# Altium schematic symbol library IC LCD Driver.SchLib: 8 symbols
Pins are listed as number, name and electrical type; pins without a type are passive.

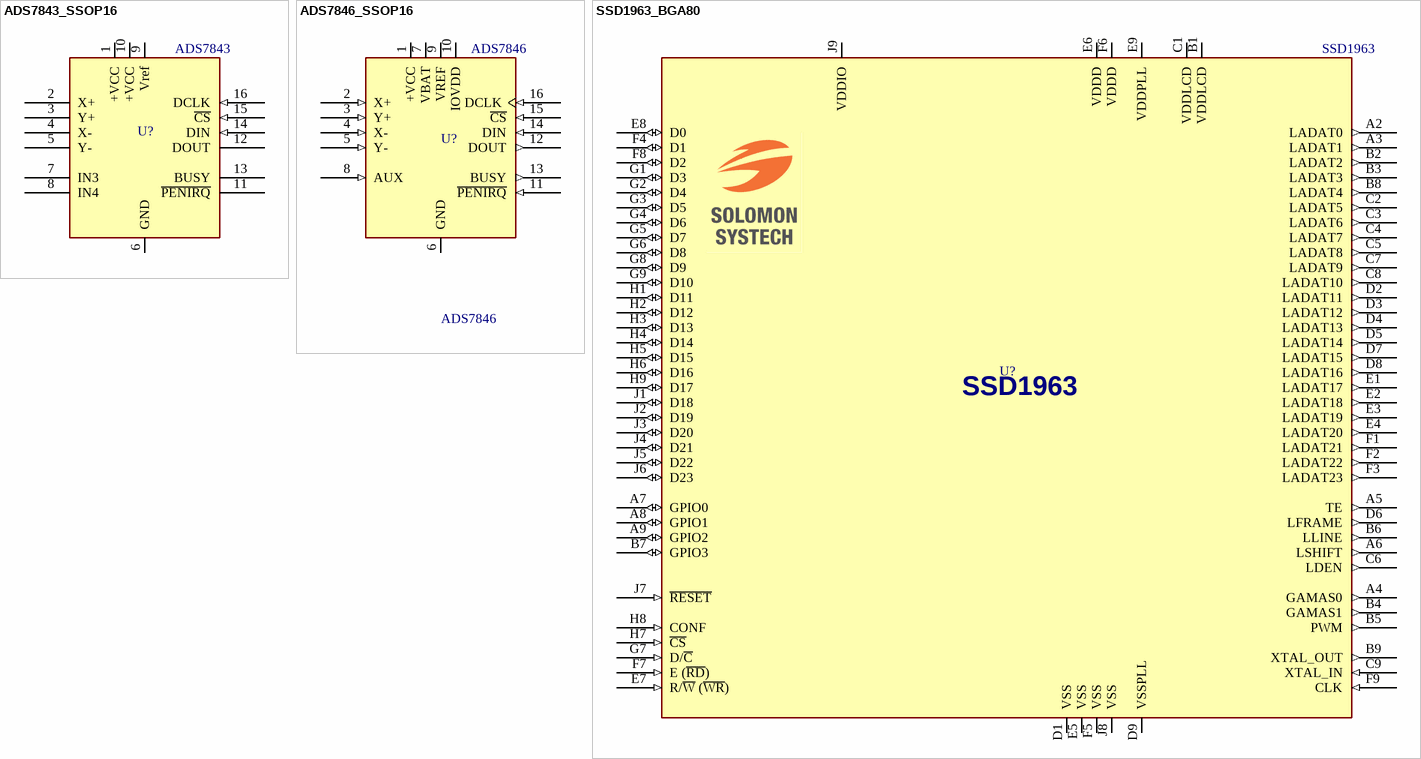
[diagram p0: symbols ADS7843_SSOP16 to SSD1963_BGA80]

## ADS7843_SSOP16
designator U?, comment ADS7843
LCD, Touch Screen Controller, 4Wire, 8/12Bit; MANF: Texas Instruments; PARAM2: 2.7~5V; MANF_P#: ADS7843; VALUE: ADS7843
footprint SOG63_16 (SOP DBQ, 16-Leads, Body 4.90x3.90mm, Pitch 0.635mm)
pins: 1 +VCC (power) "Power Supply, 2.7V to 5V.", 2 X+ (hiz) "X+ Position Input. ADC input Channel 1.", 3 Y+ (hiz) "Y+ Position Input. ADC input Channel 2.", 4 X- (hiz) "X- Position Input.", 5 Y- (hiz) "Y- Position Input.", 6 GND (power) "Ground", 7 IN3 (hiz) "Auxiliary Input 1. ADC input Channel 3.", 8 IN4 (hiz) "Auxiliary Input 2. ADC input Channel 4.", 9 Vref (power) "Voltage Reference Input", 10 +VCC (power) "Power Supply, 2.7V to 5V.", 11 ~{PENIRQ} (oc) "Pen Interrupt. Open anode output (requires 10kOhm  to 100kOhm pull-up resistor externally).", 12 DOUT (hiz) "Serial Data Output. Data is shifted on the falling  edge of DCLK. This output is high impedance  when CS is HIGH", 13 BUSY (hiz) "Busy Output. This output is high impedance when  CS is HIGH", 14 DIN (in) "Serial Data Input. If CS is LOW, data is latched on  rising edge of DCLK", 15 ~{CS} (in) "Chip Select Input. Controls conversion timing and  enables the serial input/output register", 16 DCLK (in) "External Clock Input. This clock runs the SAR conversion  process and synchronizes serial data I/O."

## ADS7846_SSOP16
designator U?, comment ADS7846
LCD, Touch screen controller, 4-WIRE, resistive; MANF: Texas Instruments; MANF_P#: ADS7846E; PARAM2: 2.2~5.25VCC, 1.5~5.25VIO; PARAM: 12Bit, 125KHz, resistive; VALUE: ADS7846
footprint SOG63_16 (SOP DBQ, 16-Leads, Body 4.90x3.90mm, Pitch 0.635mm)
pins: 1 +VCC (power), 2 X+ (in), 3 Y+ (in), 4 X- (in), 5 Y- (in), 6 GND (power), 7 VBAT (power), 8 AUX (in), 9 VREF (power), 10 IOVDD (power), 11 ~{PENIRQ} (in), 12 DOUT (out), 13 BUSY (out), 14 DIN (in), 15 ~{CS} (in), 16 DCLK (in)

## SSD1963_BGA80
designator U?, comment SSD1963
LCD Display Controller, 1215KB Embedded Display SRAM; MANF: SOLOMON SYSTECH; MANF_P#: SSD1963G41; PARAM2: 1.2VC, 1.65~3.6VIO, 1.65~3.6VLCD; VALUE: SSD1963
footprint BGA65_81_S7 (BGA, 81-Leads, Body 7.00x7.00mmx1.10mm, Pitch 0.65mm)
pins: A2 LADAT0 (out) "RGB data", A3 LADAT1 (out) "RGB data", A4 GAMAS0 (out) "Gamma selection for panel", A5 TE (out) "Tearing effect", A6 LSHIFT (out) "Pixel clock (Pixel shift signal)", A7 GPIO0 (io) "These pins can be configured for display miscellaneous signals or as general purpos I/O. Default as Input", A8 GPIO1 (io) "These pins can be configured for display miscellaneous signals or as general purpos I/O. Default as Input", A9 GPIO2 (io) "These pins can be configured for display miscellaneous signals or as general purpos I/O. Default as Input", B1 VDDLCD (power) "Power Supply for LCD interface related pads (1.65V to 3.6V)", B2 LADAT2 (out) "RGB data", B3 LADAT3 (out) "RGB data", B4 GAMAS1 (out) "Gamma selection for panel", B5 PWM (out) "PWM output for backlight driver", B6 LLINE (out) "Horizontal sync (Line pulse)", B7 GPIO3 (io) "These pins can be configured for display miscellaneous signals or as general purpos I/O. Default as Input", B8 LADAT4 (out) "RGB data", B9 XTAL_OUT (out) "Crystal oscillator output. This pin should be floating if not used", C1 VDDLCD (power) "Power Supply for LCD interface related pads (1.65V to 3.6V)", C2 LADAT5 (out) "RGB data", C3 LADAT6 (out) "RGB data", C4 LADAT7 (out) "RGB data", C5 LADAT8 (out) "RGB data", C6 LDEN (out) "Data valid", C7 LADAT9 (out) "RGB data", C8 LADAT10 (out) "RGB data", C9 XTAL_IN (in) "Crystal oscillator input. This pin should be tied to VSS if not used", D1 VSS (power) "Ground For Internal Digital Circuit", D2 LADAT11 (out) "RGB data", D3 LADAT12 (out) "RGB data", D4 LADAT13 (out) "RGB data", D5 LADAT14 (out) "RGB data", D6 LFRAME (out) "Vertical sync (Frame pulse)", D7 LADAT15 (out) "RGB data", D8 LADAT16 (out) "RGB data", D9 VSSPLL (power) "Ground For Internal Analog Circuit and Analog I/O pads", E1 LADAT17 (out) "RGB data", E2 LADAT18 (out) "RGB data", E3 LADAT19 (out) "RGB data", E4 LADAT20 (out) "RGB data", E5 VSS (power) "Ground For Internal Digital Circuit", E6 VDDD (power) "Power Supply for internal digital circuit  (1.2V ± 0.1 V)", E7 R/~{W} (~{WR}) (in) "6800 mode:R/W# => 0:Write cycle => 1:read cycle ==> 8080 mode: WR# (write strobe signal)", E8 D0 (io) "Data bus. Pins not used should be floating", E9 VDDPLL (power) "Power Supply for internal analog circuit and analog I/O pads (1.2V ± 0.1 V)", F1 LADAT21 (out) "RGB data", F2 LADAT22 (out) "RGB data", F3 LADAT23 (out) "RGB data", F4 D1 (io) "Data bus. Pins not used should be floating", F5 VSS (power) "Ground For Internal Digital Circuit", F6 VDDD (power) "Power Supply for internal digital circuit  (1.2V ± 0.1 V)", F7 E (~{RD}) (in) "6800 mode: E (enable signal) ==> 8080 mode: RD# (read strobe signal)", F8 D2 (io) "Data bus. Pins not used should be floating", F9 CLK (in) "TTL clock input. this pin should be tied to VSS if TTL clock input is not used", G1 D3 (io) "Data bus. Pins not used should be floating", G2 D4 (io) "Data bus. Pins not used should be floating", G3 D5 (io) "Data bus. Pins not used should be floating", G4 D6 (io) "Data bus. Pins not used should be floating", G5 D7 (io) "Data bus. Pins not used should be floating", G6 D8 (io) "Data bus. Pins not used should be floating", G7 D/~{C} (in) "Data/Command select", G8 D9 (io) "Data bus. Pins not used should be floating", G9 D10 (io) "Data bus. Pins not used should be floating", H1 D11 (io) "Data bus. Pins not used should be floating", H2 D12 (io) "Data bus. Pins not used should be floating", H3 D13 (io) "Data bus. Pins not used should be floating", H4 D14 (io) "Data bus. Pins not used should be floating", H5 D15 (io) "Data bus. Pins not used should be floating", H6 D16 (io) "Data bus. Pins not used should be floating", H7 ~{CS} (in) "Chip select", H8 CONF (in) "MCU interface configuration => 0 : 6800 interface => 1 : 8080 Interface", H9 D17 (io) "Data bus. Pins not used should be floating", J1 D18 (io) "Data bus. Pins not used should be floating", J2 D19 (io) "Data bus. Pins not used should be floating", J3 D20 (io) "Data bus. Pins not used should be floating", J4 D21 (io) "Data bus. Pins not used should be floating", J5 D22 (io) "Data bus. Pins not used should be floating", J6 D23 (io) "Data bus. Pins not used should be floating", J7 ~{RESET} (in) "Master Synchronize reset", J8 VSS (power) "Ground For Internal Digital Circuit", J9 VDDIO (power) "Power Supply for Digital I/O pads (1.65V to 3.6V)"

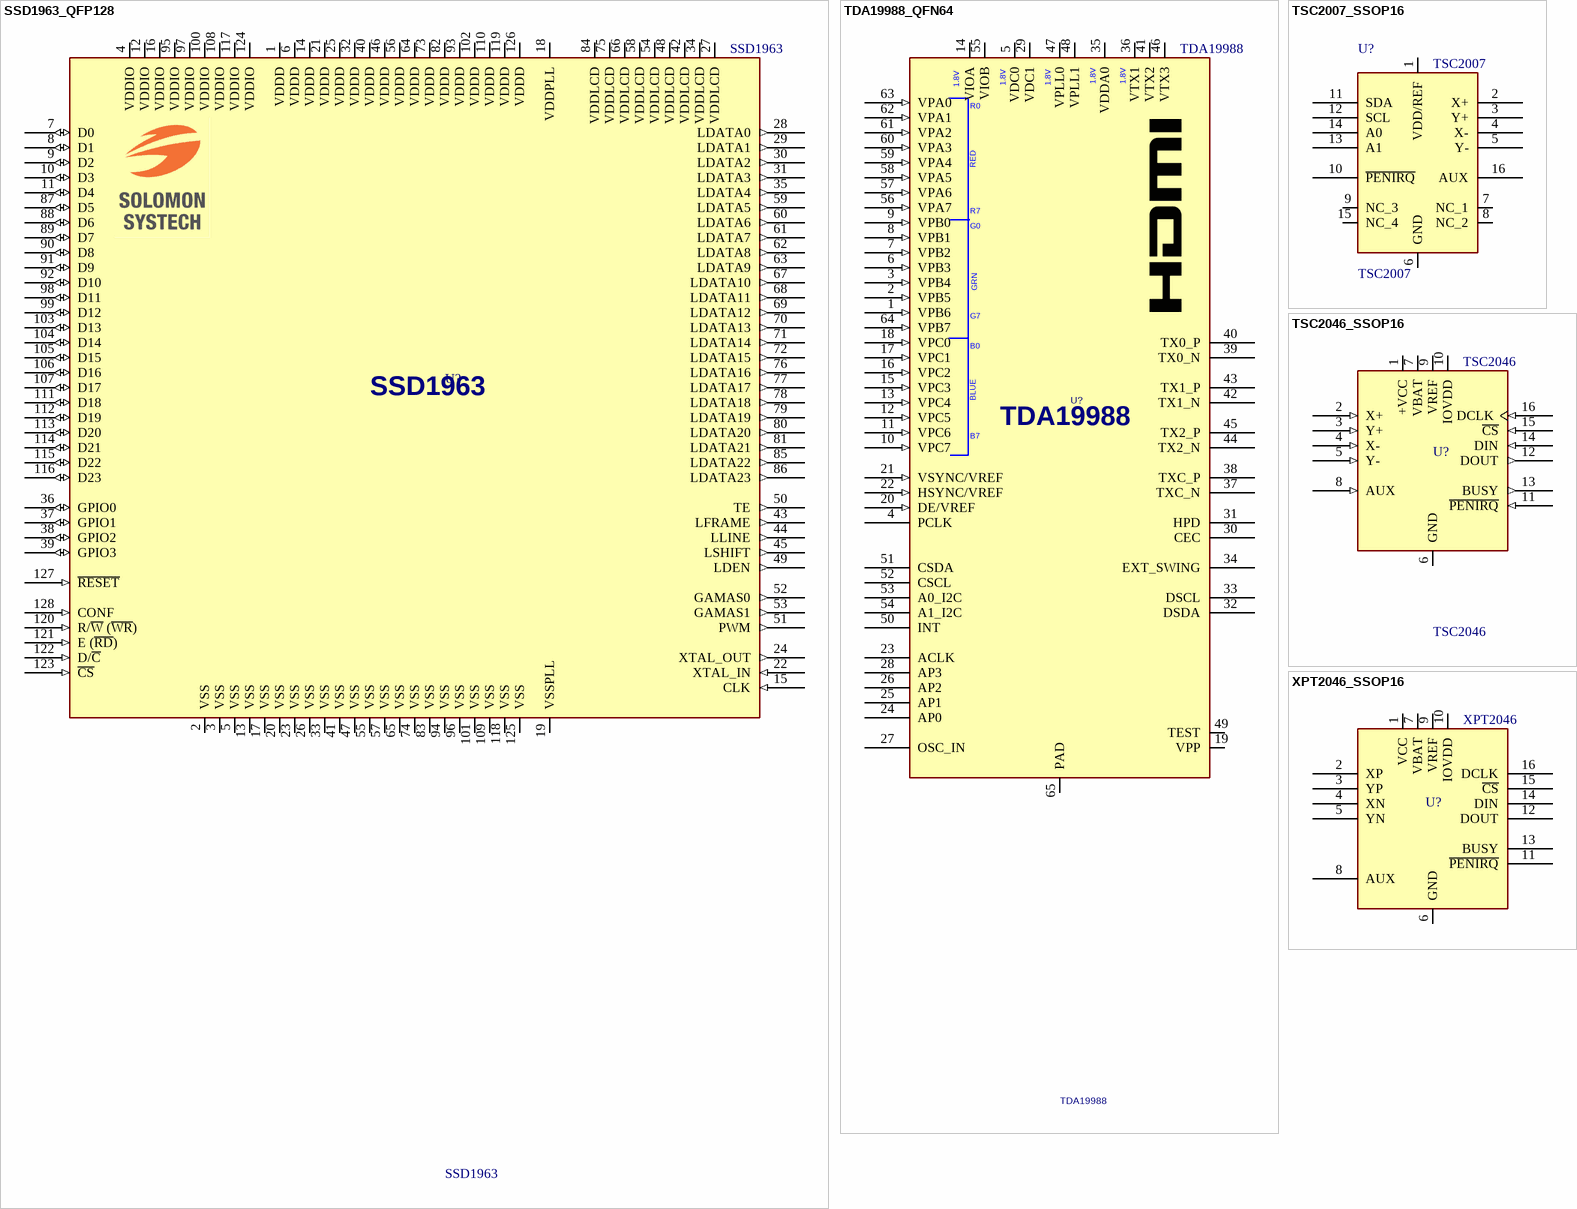
[diagram p1: symbols SSD1963_QFP128 to XPT2046_SSOP16]

## SSD1963_QFP128
designator U?, comment SSD1963
LCD Display Controller, 1215KB Embedded Display SRAM; MANF: SOLOMON SYSTECH; MANF_P#: SSD1963QL9; PARAM2: 1.2VC, 1.65~3.6VIO, 1.65~3.6VLCD; VALUE: SSD1963
footprint QFG40_128 (LQFP128, PQFP-128, MS-026(JEDEC), 14X14mm, 0.4mm)
pins: 1 VDDD (power) "Power Supply for internal digital circuit  (1.2V ± 0.1 V)", 2 VSS (power) "Ground For Internal Digital Circuit", 3 VSS (power) "Ground For Internal Digital Circuit", 4 VDDIO (power) "Power Supply for Digital I/O pads (1.65V to 3.6V)", 5 VSS (power) "Ground For Internal Digital Circuit", 6 VDDD (power) "Power Supply for internal digital circuit  (1.2V ± 0.1 V)", 7 D0 (io) "Data bus. Pins not used should be floating", 8 D1 (io) "Data bus. Pins not used should be floating", 9 D2 (io) "Data bus. Pins not used should be floating", 10 D3 (io) "Data bus. Pins not used should be floating", 11 D4 (io) "Data bus. Pins not used should be floating", 12 VDDIO (power) "Power Supply for Digital I/O pads (1.65V to 3.6V)", 13 VSS (power) "Ground For Internal Digital Circuit", 14 VDDD (power) "Power Supply for internal digital circuit  (1.2V ± 0.1 V)", 15 CLK (in) "TTL clock input. this pin should be tied to VSS if TTL clock input is not used", 16 VDDIO (power) "Power Supply for Digital I/O pads (1.65V to 3.6V)", 17 VSS (power) "Ground For Internal Digital Circuit", 18 VDDPLL (power) "Power Supply for internal analog circuit and analog I/O pads (1.2V ± 0.1 V)", 19 VSSPLL (power) "Ground For Internal Analog Circuit and Analog I/O pads", 20 VSS (power) "Ground For Internal Digital Circuit", 21 VDDD (power) "Power Supply for internal digital circuit  (1.2V ± 0.1 V)", 22 XTAL_IN (in) "Crystal oscillator input. This pin should be tied to VSS if not used", 23 VSS (power) "Ground For Internal Digital Circuit", 24 XTAL_OUT (out) "Crystal oscillator output. This pin should be floating if not used", 25 VDDD (power) "Power Supply for internal digital circuit  (1.2V ± 0.1 V)", 26 VSS (power) "Ground For Internal Digital Circuit", 27 VDDLCD (power) "Power Supply for LCD interface related pads (1.65V to 3.6V)", 28 LDATA0 (out) "RGB Data", 29 LDATA1 (out) "RGB Data", 30 LDATA2 (out) "RGB Data", 31 LDATA3 (out) "RGB Data", 32 VDDD (power) "Power Supply for internal digital circuit  (1.2V ± 0.1 V)", 33 VSS (power) "Ground For Internal Digital Circuit", 34 VDDLCD (power) "Power Supply for LCD interface related pads (1.65V to 3.6V)", 35 LDATA4 (out) "RGB Data", 36 GPIO0 (io) "These pins can be configured for display miscellaneous signals or as general purpos I/O. Default as Input", 37 GPIO1 (io) "These pins can be configured for display miscellaneous signals or as general purpos I/O. Default as Input", 38 GPIO2 (io) "These pins can be configured for display miscellaneous signals or as general purpos I/O. Default as Input", 39 GPIO3 (io) "These pins can be configured for display miscellaneous signals or as general purpos I/O. Default as Input", 40 VDDD (power) "Power Supply for internal digital circuit  (1.2V ± 0.1 V)", 41 VSS (power) "Ground For Internal Digital Circuit", 42 VDDLCD (power) "Power Supply for LCD interface related pads (1.65V to 3.6V)", 43 LFRAME (out) "Vertical sync (Frame pulse)", 44 LLINE (out) "Horizontal sync (Line pulse)", 45 LSHIFT (out) "Pixel clock (Pixel shift signal)", 46 VDDD (power) "Power Supply for internal digital circuit  (1.2V ± 0.1 V)", 47 VSS (power) "Ground For Internal Digital Circuit", 48 VDDLCD (power) "Power Supply for LCD interface related pads (1.65V to 3.6V)", 49 LDEN (out) "Data valid", 50 TE (out) "Tearing effect", 51 PWM (out) "PWM output for backlight driver", 52 GAMAS0 (out) "Gamma selection for panel", 53 GAMAS1 (out) "Gamma selection for panel", 54 VDDLCD (power) "Power Supply for LCD interface related pads (1.65V to 3.6V)", 55 VSS (power) "Ground For Internal Digital Circuit", 56 VDDD (power) "Power Supply for internal digital circuit  (1.2V ± 0.1 V)", 57 VSS (power) "Ground For Internal Digital Circuit", 58 VDDLCD (power) "Power Supply for LCD interface related pads (1.65V to 3.6V)", 59 LDATA5 (out) "RGB Data", 60 LDATA6 (out) "RGB Data", 61 LDATA7 (out) "RGB Data", 62 LDATA8 (out) "RGB Data", 63 LDATA9 (out) "RGB Data", 64 VDDD (power) "Power Supply for internal digital circuit  (1.2V ± 0.1 V)", 65 VSS (power) "Ground For Internal Digital Circuit", 66 VDDLCD (power) "Power Supply for LCD interface related pads (1.65V to 3.6V)", 67 LDATA10 (out) "RGB Data", 68 LDATA11 (out) "RGB Data", 69 LDATA12 (out) "RGB Data", 70 LDATA13 (out) "RGB Data", 71 LDATA14 (out) "RGB Data", 72 LDATA15 (out) "RGB Data", 73 VDDD (power) "Power Supply for internal digital circuit  (1.2V ± 0.1 V)", 74 VSS (power) "Ground For Internal Digital Circuit", 75 VDDLCD (power) "Power Supply for LCD interface related pads (1.65V to 3.6V)", 76 LDATA16 (out) "RGB Data", 77 LDATA17 (out) "RGB Data", 78 LDATA18 (out) "RGB Data", 79 LDATA19 (out) "RGB Data", 80 LDATA20 (out) "RGB Data", 81 LDATA21 (out) "RGB Data", 82 VDDD (power) "Power Supply for internal digital circuit  (1.2V ± 0.1 V)", 83 VSS (power) "Ground For Internal Digital Circuit", 84 VDDLCD (power) "Power Supply for LCD interface related pads (1.65V to 3.6V)", 85 LDATA22 (out) "RGB Data", 86 LDATA23 (out) "RGB Data", 87 D5 (io) "Data bus. Pins not used should be floating", 88 D6 (io) "Data bus. Pins not used should be floating", 89 D7 (io) "Data bus. Pins not used should be floating", 90 D8 (io) "Data bus. Pins not used should be floating", 91 D9 (io) "Data bus. Pins not used should be floating", 92 D10 (io) "Data bus. Pins not used should be floating", 93 VDDD (power) "Power Supply for internal digital circuit  (1.2V ± 0.1 V)", 94 VSS (power) "Ground For Internal Digital Circuit", 95 VDDIO (power) "Power Supply for Digital I/O pads (1.65V to 3.6V)", 96 VSS (power) "Ground For Internal Digital Circuit", 97 VDDIO (power) "Power Supply for Digital I/O pads (1.65V to 3.6V)", 98 D11 (io) "Data bus. Pins not used should be floating", 99 D12 (io) "Data bus. Pins not used should be floating", 100 VDDIO (power) "Power Supply for Digital I/O pads (1.65V to 3.6V)", 101 VSS (power) "Ground For Internal Digital Circuit", 102 VDDD (power) "Power Supply for internal digital circuit  (1.2V ± 0.1 V)", 103 D13 (io) "Data bus. Pins not used should be floating", 104 D14 (io) "Data bus. Pins not used should be floating", 105 D15 (io) "Data bus. Pins not used should be floating", 106 D16 (io) "Data bus. Pins not used should be floating", 107 D17 (io) "Data bus. Pins not used should be floating", 108 VDDIO (power) "Power Supply for Digital I/O pads (1.65V to 3.6V)", 109 VSS (power) "Ground For Internal Digital Circuit", 110 VDDD (power) "Power Supply for internal digital circuit  (1.2V ± 0.1 V)", 111 D18 (io) "Data bus. Pins not used should be floating", 112 D19 (io) "Data bus. Pins not used should be floating", 113 D20 (io) "Data bus. Pins not used should be floating", 114 D21 (io) "Data bus. Pins not used should be floating", 115 D22 (io) "Data bus. Pins not used should be floating", 116 D23 (io) "Data bus. Pins not used should be floating", 117 VDDIO (power) "Power Supply for Digital I/O pads (1.65V to 3.6V)", 118 VSS (power) "Ground For Internal Digital Circuit", 119 VDDD (power) "Power Supply for internal digital circuit  (1.2V ± 0.1 V)", 120 R/~{W} (~{WR}) (in) "6800 mode:R/W# => 0:Write cycle => 1:read cycle ==> 8080 mode: WR# (write strobe signal)", 121 E (~{RD}) (in) "6800 mode: E (enable signal) ==> 8080 mode: RD# (read strobe signal)", 122 D/~{C} (in) "Data/Command select", 123 ~{CS} (in) "Chip select", 124 VDDIO (power) "Power Supply for Digital I/O pads (1.65V to 3.6V)", 125 VSS (power) "Ground For Internal Digital Circuit", 126 VDDD (power) "Power Supply for internal digital circuit  (1.2V ± 0.1 V)", 127 ~{RESET} (in) "Master Synchronize reset", 128 CONF (in) "MCU interface configuration => 0 : 6800 interface => 1 : 8080 Interface"

## TDA19988_QFN64
designator U?, comment TDA19988
HDMI transmitter, Low power, 150Mbps, 3X8-bit video inputs, HDCP&CEC support; MANF: NXP; MANF_P#: TDA19988BHN/C1,557; PARAM2: 1.8V; PARAM: 150Mbps, 3X8-bit video inputs, HDCP&CEC support; PRICE: 5$; VALUE: TDA19988
footprint QFN50_64T (LFCSP_VQ, MO-220-VMMD-4, MO-220-WNJR-5(JEDEC), RGC S-PQFP-N64 (TI), 9X9mm, 0.5mm)
pins: 1 VPB6 (in), 2 VPB5 (in), 3 VPB4 (in), 4 PCLK, 5 VDC0 (power), 6 VPB3 (in), 7 VPB2 (in), 8 VPB1 (in), 9 VPB0 (in), 10 VPC7 (in), 11 VPC6 (in), 12 VPC5 (in), 13 VPC4 (in), 14 VIOA (power), 15 VPC3 (in), 16 VPC2 (in), 17 VPC1 (in), 18 VPC0 (in), 19 VPP (power), 20 DE/VREF (in), 21 VSYNC/VREF (in), 22 HSYNC/VREF (in), 23 ACLK, 24 AP0, 25 AP1, 26 AP2, 27 OSC_IN, 28 AP3, 29 VDC1 (power), 30 CEC, 31 HPD, 32 DSDA, 33 DSCL, 34 EXT_SWING, 35 VDDA0 (power), 36 VTX1 (power), 37 TXC_N, 38 TXC_P, 39 TX0_N, 40 TX0_P, 41 VTX2 (power), 42 TX1_N, 43 TX1_P, 44 TX2_N, 45 TX2_P, 46 VTX3 (power), 47 VPLL0 (power), 48 VPLL1 (power), 49 TEST (power), 50 INT, 51 CSDA, 52 CSCL, 53 A0_I2C (power), 54 A1_I2C (power), 55 VIOB, 56 VPA7 (in), 57 VPA6 (in), 58 VPA5 (in), 59 VPA4 (in), 60 VPA3 (in), 61 VPA2 (in), 62 VPA1 (in), 63 VPA0 (in), 64 VPB7 (in), 65 PAD
text: R0; RED; R7; G0; GRN; G7; B0; BLUE; B7

## TSC2007_SSOP16
designator U?, comment TSC2007
LCD, Touch Screen Controller, 12Bit, I2C, 16TSSOP; MANF: Texas Instruments; MANF_P#: TSC2007IPWR; PARAM2: 1.2~3.6V; PARAM: I²C, Serial, 10kbps, 12Bit, 4-Wire; PRICE: 1=4.23, 10=3.793, 25=3.4104, 100=3.1017, 250=2.80772, 500=2.5137, 1000=2.1168 (USD); VALUE: TSC2007
footprint SOG65_16 (PW TSSOP (TI), MO-153-AB (JEDEC), 16Lead, pitch: 0.65mm, 5x4.4x1.2mm)
pins: 1 VDD/REF, 2 X+, 3 Y+, 4 X-, 5 Y-, 6 GND, 7 NC_1, 8 NC_2, 9 NC_3, 10 ~{PENIRQ}, 11 SDA, 12 SCL, 13 A1, 14 A0, 15 NC_4, 16 AUX

## TSC2046_SSOP16
designator U?, comment TSC2046
LCD, Touch screen controller, 4-WIRE, resistive; DIST#: same pinout ADS7846; MANF: Texas Instruments; MANF_P#: TSC2046IPW; PARAM2: 2.2~5.25VCC, 1.5~5.25VIO; PARAM: 12Bit, 125KHz, resistive; VALUE: TSC2046
footprint SOG65_16 (PW TSSOP (TI), MO-153-AB (JEDEC), 16Lead, pitch: 0.65mm, 5x4.4x1.2mm)
pins: 1 +VCC (power), 2 X+ (in), 3 Y+ (in), 4 X- (in), 5 Y- (in), 6 GND (power), 7 VBAT (power), 8 AUX (in), 9 VREF (power), 10 IOVDD (power), 11 ~{PENIRQ} (in), 12 DOUT (out), 13 BUSY (out), 14 DIN (in), 15 ~{CS} (in), 16 DCLK (in)

## XPT2046_SSOP16
designator U?, comment XPT2046
LCD, Touch screen controller, resistive, 4-wire; MANF: XPT; PARAM2: 2.2~3.6VCC, VIO: 1.5~VCC; PARAM: 12Bit, 125KHz; MANF_P#: XPT2046; VALUE: XPT2046
footprint SOG65_16 (PW TSSOP (TI), MO-153-AB (JEDEC), 16Lead, pitch: 0.65mm, 5x4.4x1.2mm)
pins: 1 VCC, 2 XP, 3 YP, 4 XN, 5 YN, 6 GND, 7 VBAT, 8 AUX, 9 VREF, 10 IOVDD, 11 ~{PENIRQ}, 12 DOUT, 13 BUSY, 14 DIN, 15 ~{CS}, 16 DCLK